# EAGLE library part TXS0104 (library bschulz)
TXS0104 - 4 Channel Bidirectional Voltage Level Translator Characteristics: Vcc: 1.65 ~ 3.6V (Port A), 2.3 ~ 5.5V (Port B) IQ: 14.4μA Output Current: 50mA Output Type: Open Drain/Push-Pull Operating Temperature: -40°C to 85°C Digikey: 296-20698-1-ND (RGY) <https://www.digikey.com/product-detail/en/texas-instruments/TXS0104ERGYR/296-20698-1-ND/1143682>
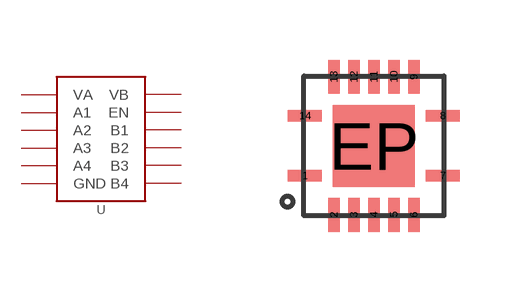
[diagram p71: symbol with the pads of RGY_S-PVQFN-N14; footprint RGY_S-PVQFN-N14]

Designator prefix U

## TXS0104RGY (DIGIKEY: 296-20698-1-ND; DISP: TXS0104; MF: TI; MPN: TXS0104ERGYR)  [RGY_S-PVQFN-N14]
1  VA  pwr
2  A1
3  A2
4  A3
5  A4
7  GND  pwr
8  EN  in
10  B4
11  B3
12  B2
13  B1
14  VB  pwr
EP  GND  pwr

## Footprint RGY_S-PVQFN-N14 (pad centres in mm)
smd 0.85 x 0.28: 1 -1.725,-0.75; 7 1.725,-0.75; 8 1.725,0.75; 14 -1.725,0.75
smd 0.28 x 0.85: 2 -1,-1.725; 3 -0.5,-1.725; 4 0,-1.725; 5 0.5,-1.725; 6 1,-1.725; 9 1,1.725; 10 0.5,1.725; 11 0,1.725; 12 -0.5,1.725; 13 -1,1.725
smd 2.05 x 2.05: EP 0,0